# Altium footprint library CASE-B.PcbLib: 1 footprints
Each footprint in its own frame and in the unit in brackets; x right, y up, seen from the top. Pads: shape width x height; smd on the part's side, far side on the other; paste and mask are expansions set on the pad; w line width, h text height; cw(c..) or ccw(c..) is an arc to the next point about the centre after c.
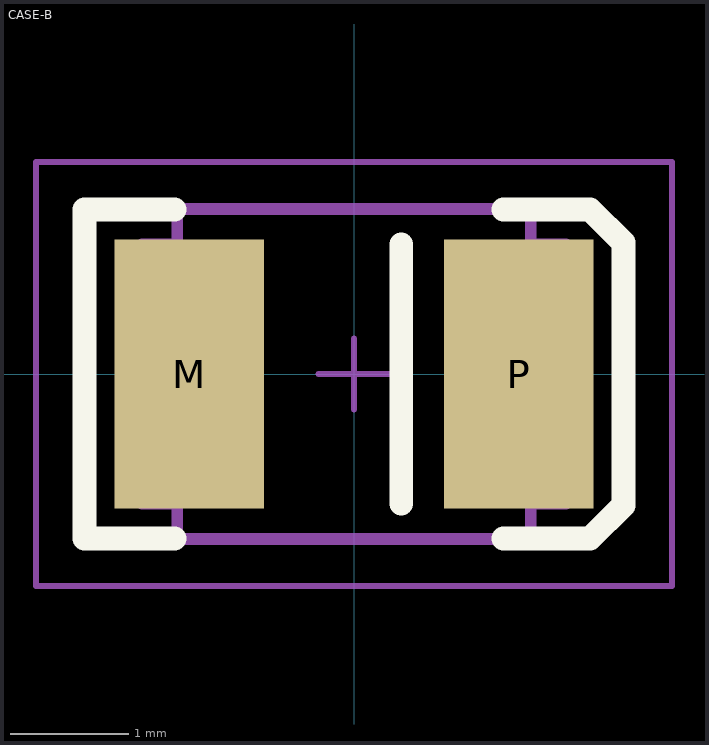
[diagram p0: the footprint, top view; thin cyan lines are the x and y axes]

## CASE-B [mil]
height 74.8
pads (2):
  rect 50x90 smd: M(-55,0) P(55,0)
TopOverlay:
  lines w7.87: 15.75,-43.31 15.75,43.31
  lines w8: -60,-55 -90,-55 -90,55 -60,55 ; 50,-55 78.86,-55 90,-43.86 90,43.86 78.86,55 50,55
Mechanical13:
  lines w3.94: -59.06,-43.31 -70.87,-43.31 -70.87,43.31 -59.06,43.31 ; 59.06,-43.31 70.87,-43.31 70.87,43.31 59.06,43.31 ; -59.06,-55.12 59.06,-55.12 59.06,55.12 -59.06,55.12 -59.06,-55.12
Mechanical15:
  lines w1.97: -11.81,0 11.81,0 ; 0,-11.81 0,11.81 ; -106.3,-70.87 106.3,-70.87 106.3,70.87 -106.3,70.87 -106.3,-70.87
3D body: height 47.24, standoff 0, extent 59.08,-43.29 70.85,43.29
3D body: height 74.8, standoff 0, extent -59.04,-55.1 59.04,55.1
3D body: height 47.24, standoff 0, extent -70.85,-43.29 -59.08,43.29